# Altium schematic symbol library IC_MS563702BA03.Schlib: 1 symbol
Pins are listed as number, name and electrical type; pins without a type are passive.

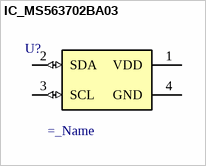
[diagram p0: symbol IC_MS563702BA03]

## IC_MS563702BA03
designator U?  (value not drawn)
=description; Value: =_Name
pins: 1 VDD, 2 SDA (io), 3 SCL (io), 4 GND